# Altium schematic symbol library Terminal Block 12.SchLib: 1 symbol
Pins are listed as number, name and electrical type; pins without a type are passive.

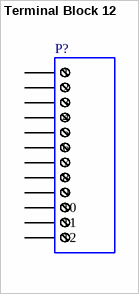
[diagram p0: symbol Terminal Block 12]

## Terminal Block 12
designator P?
Screw terminal block, 12-Way
pins: 1, 2, 3, 4, 5, 6, 7, 8, 9, 10, 11, 12